# Altium integrated library RCS08054K70FKEA.IntLib: 1 symbol
Pins are listed as number, name and electrical type; pins without a type are passive.

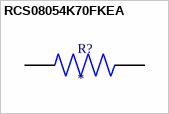
[diagram p0: symbol RCS08054K70FKEA]

## RCS08054K70FKEA
designator R?
4.7 kOhms Â±1% 0.75W, 3/4W Chip Resistor 0805 (2012 Metric) Automotive AEC-Q200, Pulse Withstanding Thick Film; MF: Vishay; MP: RCS08054K70FKEA; SnapEDA_Link: https://www.snapeda.com/parts/RCS08054K70FKEA/Vishay/view-part/?ref=snap; Package: 2012 Vishay; Value: *; Check_prices: https://www.snapeda.com/parts/RCS08054K70FKEA/Vishay/view-part/?ref=eda
footprint RESC2012X50N
pins: 1, 2